# Altium schematic symbol library WA-SMSR.SchLib: 1 symbol
Pins are listed as number, name and electrical type; pins without a type are passive.

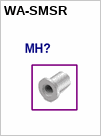
[diagram p0: symbol WA-SMSR]

## WA-SMSR
designator MH?  (value not drawn)
1 alternate drawing of the same symbol